# Altium integrated library C0402C104K4RACTU.IntLib: 1 symbol
Pins are listed as number, name and electrical type; pins without a type are passive.

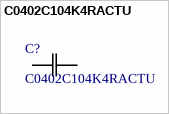
[diagram p0: symbol C0402C104K4RACTU]

## C0402C104K4RACTU
designator C?
SMD Comm X7R, Ceramic, 0.1 uF, 10%, 16 VDC, X7R, SMD, MLCC, Temperature Stable, Class II, 0402; Manufacturer_Name: Kemet; Copyright: Copyright (C) 2025 Ultra Librarian. All rights reserved.; Manufacturer_Part_Number: C0402C104K4RACTU
footprint CAPC10555_55N_KEM
pins: 1, 2